# EAGLE library part ROS-1600PV (library minicircuits)
ROS-1600PV 5V Tuning for PLL IC's 1520 to 1600 MHz Features: supply voltage, 5V tuning voltage, 5V linear tuning, 25-38 MHz/V low phase noise, -100 dBc/Hz at 10 kHz offset aqueous washable Output power: +7 dBm Applications: PCS CDMA PLL circuitry http://www.minicircuits.com/ROS-1600PV.pdf
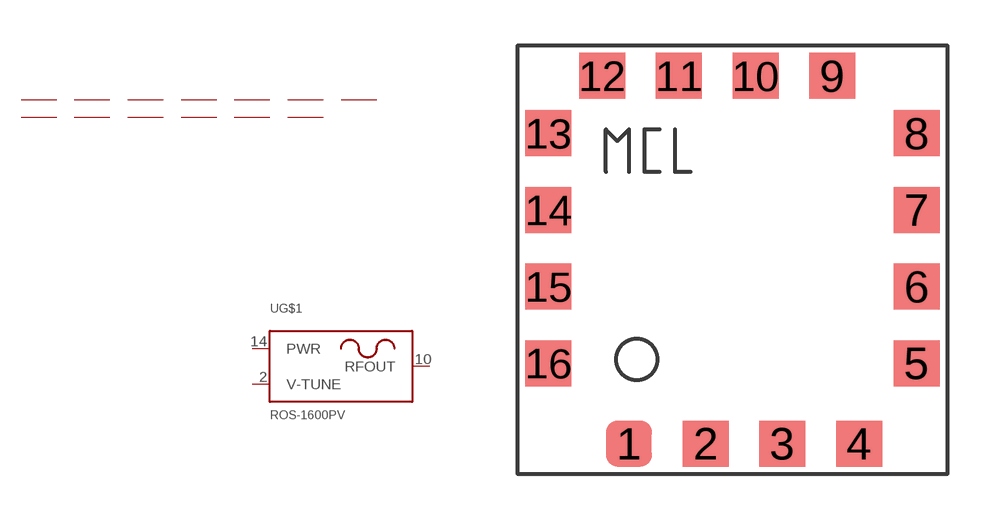
[diagram p37: symbol with the pads of CK605; footprint CK605]

Designator prefix -; gates G$1=VCO G$2=GND G$3=GND G$4=GND G$5=GND G$6=GND G$7=GND G$8=GND G$9=GND G$10=GND G$11=GND G$12=GND G$13=GND G$14=GND

## ROS-1600PV  [CK605]
1  G$2:GND  pwr
2  G$1:V-TUNE  in
3  G$3:GND  pwr
4  G$4:GND  pwr
5  G$5:GND  pwr
6  G$6:GND  pwr
7  G$7:GND  pwr
8  G$8:GND  pwr
9  G$9:GND  pwr
10  G$1:RFOUT  out
11  G$10:GND  pwr
12  G$11:GND  pwr
13  G$12:GND  pwr
14  G$1:PWR  pwr
15  G$13:GND  pwr
16  G$14:GND  pwr

## Footprint CK605 (pad centres in mm)
ck605 Material and Finish: Case Material: Copper-Nickel or Nickel-Silver Alloy. Base: Glass Epoxy Laminate. Termination Finish: tin-lead plate or tin plate. http://www.minicircuits.com/cgi-bin/inquery.cgi?querystring=ck605&searchtype=case&x=28&y=9
smd 1.524 x 1.524: 1 0,-0.127; 2 2.54,-0.127; 3 5.08,-0.127; 4 7.62,-0.127; 5 9.525,2.54; 6 9.525,5.08; 7 9.525,7.62; 8 9.525,10.16; 9 6.731,12.065; 10 4.191,12.065; 11 1.651,12.065; 12 -0.889,12.065; 13 -2.667,10.16; 14 -2.667,7.62; 15 -2.667,5.08; 16 -2.667,2.54